# Altium schematic symbol library passive_th_cap.SchLib: 11 symbols
Pins are listed as number, name and electrical type; pins without a type are passive.

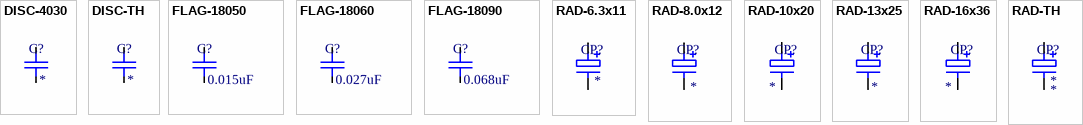
[diagram p0: symbols DISC-4030 to RAD-TH]

## DISC-4030
designator C?
Disc capacitor 4.0x3.0; RevisionDate: 11-01-2018; Name: *; Voltage: *; Value: *
footprint CAP-DISC-40X30 (QFN, 4-Leads, Body 7,50x5,00mm, Pitch 6,00mm/2,54mm, IPC Medium Density)
pins: 1, 2

## DISC-TH
designator C?
Disc capacitor NN; RevisionDate: 11-01-2018; Name: *; Voltage: *; Value: *
footprint CAP-DISC-40X30 (QFN, 4-Leads, Body 7,50x5,00mm, Pitch 6,00mm/2,54mm, IPC Medium Density)
footprint CAP-DISC-50X40 (QFN, 4-Leads, Body 7,50x5,00mm, Pitch 6,00mm/2,54mm, IPC Medium Density)
footprint CAP-DISC-60X40 (QFN, 4-Leads, Body 7,50x5,00mm, Pitch 6,00mm/2,54mm, IPC Medium Density)
footprint CAP-DISC-70X40 (QFN, 4-Leads, Body 7,50x5,00mm, Pitch 6,00mm/2,54mm, IPC Medium Density)
footprint CAP-DISC-80X40
footprint CAP-DISC-90X50
footprint CAP-DISC-100X50
footprint CAP-DISC-100X50
footprint CAP-DISC-110X50
footprint CAP-DISC-110X50
footprint CAP-DISC-130X60
footprint CAP-DISC-150X60
footprint CAP-DISC-190X70
footprint CAP-HV-84X53 (QFN, 4-Leads, Body 7,50x5,00mm, Pitch 6,00mm/2,54mm, IPC Medium Density)
footprint CAP-HV-124X53 (QFN, 4-Leads, Body 7,50x5,00mm, Pitch 6,00mm/2,54mm, IPC Medium Density)
pins: 1, 2

## FLAG-18050
designator C?  value 0.015uF
HF cap 18x5.0x11 1kV; ManufacturerPartNumber: B32642B0153J; Name: HF Filter cap; Power/Voltage: 1000V; RevisionDate: 11-10-2018; Package: B32642
footprint CAP-FLAG-180X50 (CAP, Body 18x5,0mm, Pitch 15,24mm/2,54mm, IPC Medium Density)
pins: 1, 2

## FLAG-18060
designator C?  value 0.027uF
HF cap 18x6.0x12 1kV; ManufacturerPartNumber: B32642B0273J; Name: HF Filter cap; Power/Voltage: 1000V; RevisionDate: 11-10-2018; Package: B32642
footprint CAP-FLAG-180X60 (CAP, Body 18x6,0mm, Pitch 15,24mm/2,54mm, IPC Medium Density)
pins: 1, 2

## FLAG-18090
designator C?  value 0.068uF
HF cap 18x9.0x18 1kV; ManufacturerPartNumber: B32642B0683J; Name: HF Filter cap; Power/Voltage: 1000V; RevisionDate: 11-10-2018; Package: B32642
footprint CAP-FLAG-180X90 (CAP, Body 18x9,0mm, Pitch 15,24mm/2,54mm, IPC Medium Density)
pins: 1, 2

## RAD-6.3x11
designator CP?
Radial capacitor 6.3x11; Name: Электролитический конденсатор 6x11; RevisionDate: 11-01-2018; Voltage: *; Value: *
footprint K50-35-6.3X11 (QFN, 4-Leads, Body 7,50x5,00mm, Pitch 6,00mm/2,54mm, IPC Medium Density)
pins: 1, 2

## RAD-8.0x12
designator CP?
Radial capacitor 8x12; Name: Электролитический конденсатор 8x12; RevisionDate: 11-01-2018; Voltage: *; Value: *
footprint K50-35-8X12 (QFN, 4-Leads, Body 7,50x5,00mm, Pitch 6,00mm/2,54mm, IPC Medium Density)
pins: 1, 2

## RAD-10x20
designator CP?
Radial capacitor 10x20; Name: Электролитический конденсатор 10x20; RevisionDate: 11-01-2018; Voltage: *; Value: *
footprint K50-35-10X20 (QFN, 4-Leads, Body 7,50x5,00mm, Pitch 6,00mm/2,54mm, IPC Medium Density)
pins: 1, 2

## RAD-13x25
designator CP?
Radial capacitor 13x25; Name: Электролитический конденсатор 13х25; RevisionDate: 11-01-2018; Voltage: *; Value: *
footprint K50-35-13X25 (QFN, 4-Leads, Body 7,50x5,00mm, Pitch 6,00mm/2,54mm, IPC Medium Density)
pins: 1, 2

## RAD-16x36
designator CP?
Radial capacitor 16x36; Name: Электролитический конденсатор 16х36; RevisionDate: 11-01-2018; Voltage: *; Value: *
footprint K50-35-16X36 (QFN, 4-Leads, Body 7,50x5,00mm, Pitch 6,00mm/2,54mm, IPC Medium Density)
pins: 1, 2

## RAD-TH
designator CP?
Radial capacitor NN; Name: Электролитический конденсатор NNxNN; RevisionDate: 11-01-2018; Voltage: *; Value: *
footprint K50-35-5X11 (QFN, 4-Leads, Body 7,50x5,00mm, Pitch 6,00mm/2,54mm, IPC Medium Density)
footprint K50-35-6.3X11 (QFN, 4-Leads, Body 7,50x5,00mm, Pitch 6,00mm/2,54mm, IPC Medium Density)
footprint K50-35-8X12 (QFN, 4-Leads, Body 7,50x5,00mm, Pitch 6,00mm/2,54mm, IPC Medium Density)
footprint K50-35-10X12.5 (QFN, 4-Leads, Body 7,50x5,00mm, Pitch 6,00mm/2,54mm, IPC Medium Density)
footprint K50-35-10X16 (QFN, 4-Leads, Body 7,50x5,00mm, Pitch 6,00mm/2,54mm, IPC Medium Density)
footprint K50-35-10X20 (QFN, 4-Leads, Body 7,50x5,00mm, Pitch 6,00mm/2,54mm, IPC Medium Density)
footprint K50-35-13X21 (QFN, 4-Leads, Body 7,50x5,00mm, Pitch 6,00mm/2,54mm, IPC Medium Density)
footprint K50-35-16X26 (QFN, 4-Leads, Body 7,50x5,00mm, Pitch 6,00mm/2,54mm, IPC Medium Density)
footprint K50-35-13X25 (QFN, 4-Leads, Body 7,50x5,00mm, Pitch 6,00mm/2,54mm, IPC Medium Density)
footprint K50-35-16X32 (QFN, 4-Leads, Body 7,50x5,00mm, Pitch 6,00mm/2,54mm, IPC Medium Density)
footprint K50-35-16X36 (QFN, 4-Leads, Body 7,50x5,00mm, Pitch 6,00mm/2,54mm, IPC Medium Density)
footprint K50-35-18X36 (QFN, 4-Leads, Body 7,50x5,00mm, Pitch 6,00mm/2,54mm, IPC Medium Density)
footprint K50-35-18X40 (QFN, 4-Leads, Body 7,50x5,00mm, Pitch 6,00mm/2,54mm, IPC Medium Density)
pins: 1, 2